# Altium footprint library CAPC1709X090.PcbLib: 3 footprints
Each footprint in its own frame and in the unit in brackets; x right, y up, seen from the top. Pads: shape width x height; smd on the part's side, far side on the other; paste and mask are expansions set on the pad; w line width, h text height; cw(c..) or ccw(c..) is an arc to the next point about the centre after c.
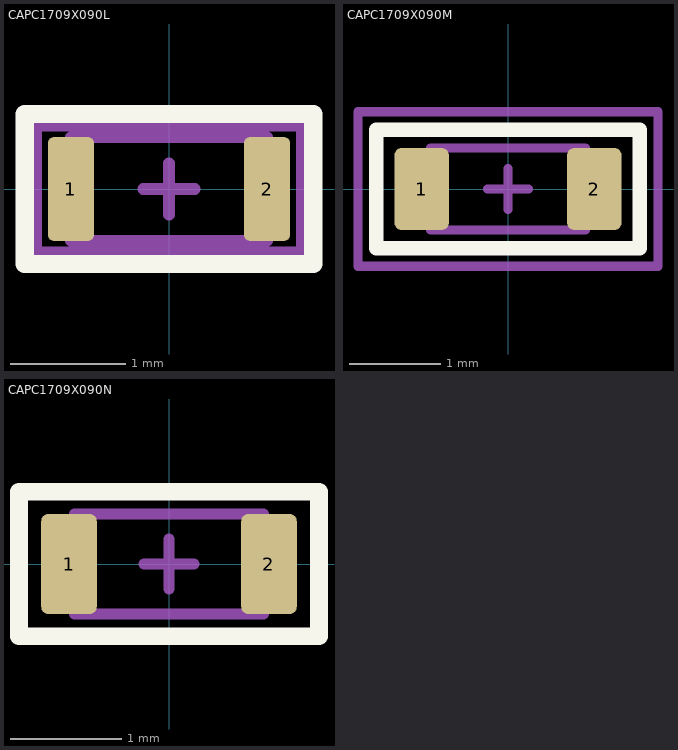
[diagram p0: the footprints below, top view; thin cyan lines are the x and y axes]

## CAPC1709X090L [mm] "Capacitors, Chip, Non-polarized"
height 1
pads (2):
  rrect25% 0.4x0.9 smd: 1(-0.85,0) 2(0.85,0)
Top Overlay:
  lines w0.16: -1.25,-0.65 1.25,-0.65 1.25,0.65 -1.25,0.65 -1.25,-0.65
Top Component Center:
  lines w0.1: -0.225,0 0.225,0 ; 0,-0.225 0,0.225
Top Courtyard:
  lines w0.1: -1.15,-0.55 1.15,-0.55 1.15,0.55 -1.15,0.55 -1.15,-0.55
Top Assembly:
  lines w0.1: -0.85,-0.45 0.85,-0.45 0.85,0.45 -0.85,0.45 -0.85,-0.45
  text ".Designator" at 0,0 h1
3D body "CAPC1709X090L.STEP": height 0.9, standoff 0, extent -0.85,-0.45 0.85,0.45

## CAPC1709X090M [mm] "Capacitors, Chip, Non-polarized"
height 1
pads (2):
  rrect25% 0.6x0.9 smd: 1(-0.95,0) 2(0.95,0)
Top Overlay:
  lines w0.16: -1.45,-0.65 1.45,-0.65 1.45,0.65 -1.45,0.65 -1.45,-0.65
Top Component Center:
  lines w0.1: -0.225,0 0.225,0 ; 0,-0.225 0,0.225
Top Courtyard:
  lines w0.1: -1.65,-0.85 1.65,-0.85 1.65,0.85 -1.65,0.85 -1.65,-0.85
Top Assembly:
  lines w0.1: -0.85,-0.45 0.85,-0.45 0.85,0.45 -0.85,0.45 -0.85,-0.45
  text ".Designator" at 0,0 h1
3D body "CAPC1709X090M.STEP": height 0.9, standoff 0, extent -0.85,-0.45 0.85,0.45

## CAPC1709X090N [mm] "Capacitors, Chip, Non-polarized"
height 1
pads (2):
  rrect25% 0.5x0.9 smd: 1(-0.9,0) 2(0.9,0)
Top Overlay:
  lines w0.16: -1.35,-0.65 1.35,-0.65 1.35,0.65 -1.35,0.65 -1.35,-0.65
Top Component Center:
  lines w0.1: -0.225,0 0.225,0 ; 0,-0.225 0,0.225
Top Courtyard:
  lines w0.1: -1.35,-0.65 1.35,-0.65 1.35,0.65 -1.35,0.65 -1.35,-0.65
Top Assembly:
  lines w0.1: -0.85,-0.45 0.85,-0.45 0.85,0.45 -0.85,0.45 -0.85,-0.45
  text ".Designator" at 0,0 h1
3D body "CAPC1709X090N.STEP": height 0.9, standoff 0, extent -0.85,-0.45 0.85,0.45